# Altium footprint library Res AXIAL.PcbLib: 1 footprints
Each footprint in its own frame and in the unit in brackets; x right, y up, seen from the top. Pads: shape width x height; smd on the part's side, far side on the other; paste and mask are expansions set on the pad; w line width, h text height; cw(c..) or ccw(c..) is an arc to the next point about the centre after c.
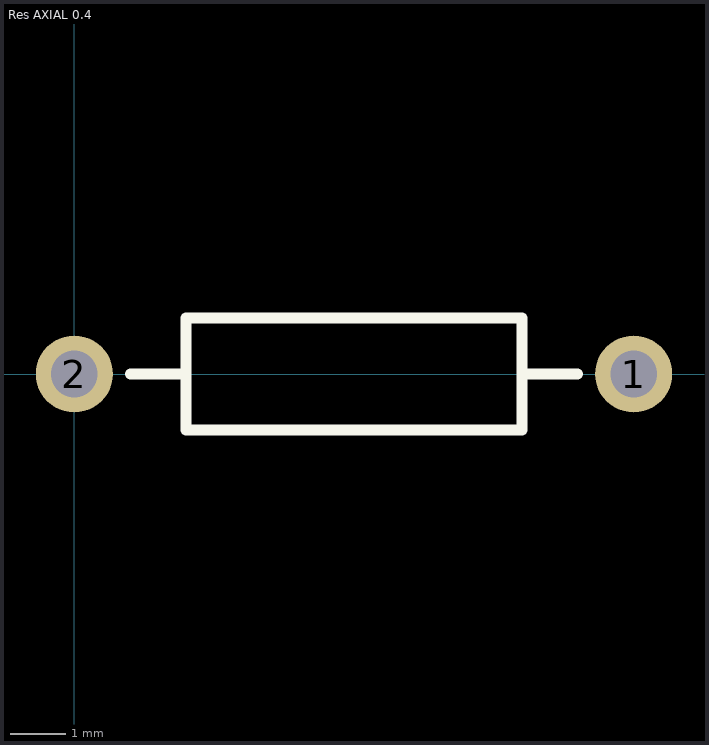
[diagram p0: the footprint, top view; thin cyan lines are the x and y axes]

## Res AXIAL 0.4 [mm] "1/4W"
pads (2):
  round 1.4 hole 0.85: 1(10.16,0) 2(0,0)
Top Overlay:
  lines w0.2: 1.016,0 2.032,0 ; 8.128,0 9.144,0 ; 2.032,-1.016 2.032,1.016 8.128,1.016 8.128,-1.016 2.032,-1.016